# EAGLE library part TM4C1294KCPDTI3 (library TM4C1294KCPDTI3)
IoT enabled High performance 32-bit ARM Cortex-M4F based MCU Source: Datasheet <http://www.ti.com/lit/gpn/TM4C1294KCPDT>
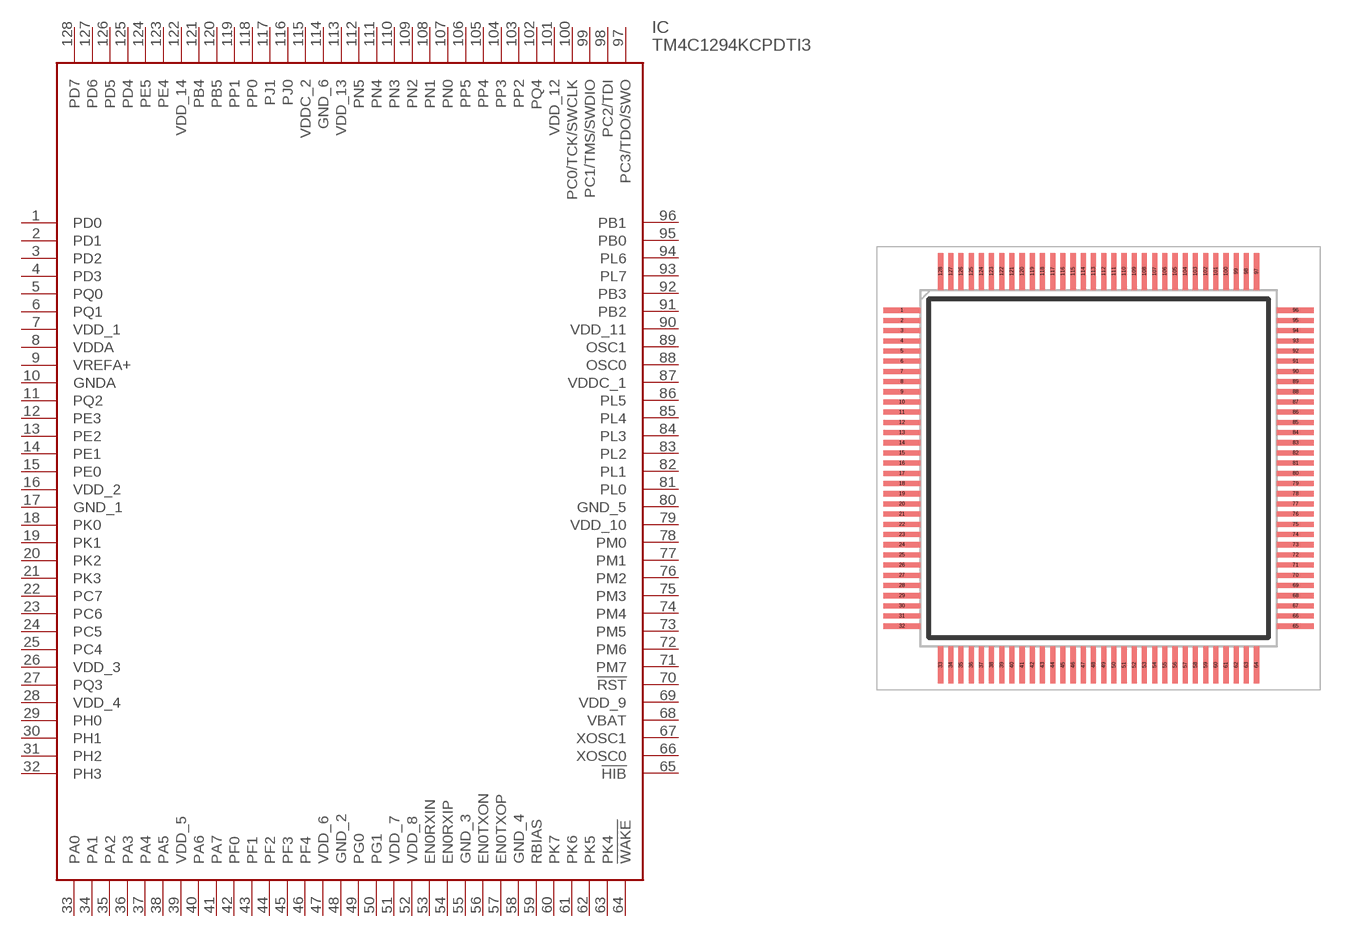
[diagram p0: symbol with the pads of QFP40P1600X1600X120-128N; footprint QFP40P1600X1600X120-128N]

Designator prefix IC

## TM4C1294KCPDTI3 (Arrow_Part_Number: TM4C1294KCPDTI3; Arrow_Price-Stock: https://www.arrow.com/en/products/tm4c1294kcpdti3/texas-instruments?utm_currency=USD&region=nac; Description: IoT enabled High performance 32-bit ARM Cortex-M4F based MCU; Height: 1.2mm; Manufacturer_Name: Texas Instruments; Manufacturer_Part_Number: TM4C1294KCPDTI3; Mouser_Part_Number: 595-TM4C1294KCPDTI3; Mouser_Price-Stock: https://www.mouser.co.uk/ProductDetail/Texas-Instruments/TM4C1294KCPDTI3?qs=NRIcxvoDUtdSWKDr717T9Q%3D%3D)  [QFP40P1600X1600X120-128N]
1  PD0
2  PD1
3  PD2
4  PD3
5  PQ0
6  PQ1
7  VDD_1
8  VDDA
9  VREFA+
10  GNDA
11  PQ2
12  PE3
13  PE2
14  PE1
15  PE0
16  VDD_2
17  GND_1
18  PK0
19  PK1
20  PK2
21  PK3
22  PC7
23  PC6
24  PC5
25  PC4
26  VDD_3
27  PQ3
28  VDD_4
29  PH0
30  PH1
31  PH2
32  PH3
33  PA0
34  PA1
35  PA2
36  PA3
37  PA4
38  PA5
39  VDD_5
40  PA6
41  PA7
42  PF0
43  PF1
44  PF2
45  PF3
46  PF4
47  VDD_6
48  GND_2
49  PG0
50  PG1
51  VDD_7
52  VDD_8
53  EN0RXIN
54  EN0RXIP
55  GND_3
56  EN0TXON
57  EN0TXOP
58  GND_4
59  RBIAS
60  PK7
61  PK6
62  PK5
63  PK4
64  !WAKE
65  !HIB
66  XOSC0
67  XOSC1
68  VBAT
69  VDD_9
70  !RST
71  PM7
72  PM6
73  PM5
74  PM4
75  PM3
76  PM2
77  PM1
78  PM0
79  VDD_10
80  GND_5
81  PL0
82  PL1
83  PL2
84  PL3
85  PL4
86  PL5
87  VDDC_1
88  OSC0
89  OSC1
90  VDD_11
91  PB2
92  PB3
93  PL7
94  PL6
95  PB0
96  PB1
97  PC3/TDO/SWO
98  PC2/TDI
99  PC1/TMS/SWDIO
100  PC0/TCK/SWCLK
101  VDD_12
102  PQ4
103  PP2
104  PP3
105  PP4
106  PP5
107  PN0
108  PN1
109  PN2
110  PN3
111  PN4
112  PN5
113  VDD_13
114  GND_6
115  VDDC_2
116  PJ0
117  PJ1
118  PP0
119  PP1
120  PB5
121  PB4
122  VDD_14
123  PE4
124  PE5
125  PD4
126  PD5
127  PD6
128  PD7

## Footprint QFP40P1600X1600X120-128N (pad centres in mm)
PDT (S-PQFP-G128)
smd 1.45 x 0.2: 1 -7.725,6.2; 2 -7.725,5.8; 3 -7.725,5.4; 4 -7.725,5; 5 -7.725,4.6; 6 -7.725,4.2; 7 -7.725,3.8; 8 -7.725,3.4; 9 -7.725,3; 10 -7.725,2.6; 11 -7.725,2.2; 12 -7.725,1.8; 13 -7.725,1.4; 14 -7.725,1; 15 -7.725,0.6; 16 -7.725,0.2; 17 -7.725,-0.2; 18 -7.725,-0.6; 19 -7.725,-1; 20 -7.725,-1.4; 21 -7.725,-1.8; 22 -7.725,-2.2; 23 -7.725,-2.6; 24 -7.725,-3; 25 -7.725,-3.4; 26 -7.725,-3.8; 27 -7.725,-4.2; 28 -7.725,-4.6; 29 -7.725,-5; 30 -7.725,-5.4; 31 -7.725,-5.8; 32 -7.725,-6.2; 65 7.725,-6.2; 66 7.725,-5.8; 67 7.725,-5.4; 68 7.725,-5; 69 7.725,-4.6; 70 7.725,-4.2; 71 7.725,-3.8; 72 7.725,-3.4; 73 7.725,-3; 74 7.725,-2.6; 75 7.725,-2.2; 76 7.725,-1.8; 77 7.725,-1.4; 78 7.725,-1; 79 7.725,-0.6; 80 7.725,-0.2; 81 7.725,0.2; 82 7.725,0.6; 83 7.725,1; 84 7.725,1.4; 85 7.725,1.8; 86 7.725,2.2; 87 7.725,2.6; 88 7.725,3; 89 7.725,3.4; 90 7.725,3.8; 91 7.725,4.2; 92 7.725,4.6; 93 7.725,5; 94 7.725,5.4; 95 7.725,5.8; 96 7.725,6.2
smd 0.2 x 1.45: 33 -6.2,-7.725; 34 -5.8,-7.725; 35 -5.4,-7.725; 36 -5,-7.725; 37 -4.6,-7.725; 38 -4.2,-7.725; 39 -3.8,-7.725; 40 -3.4,-7.725; 41 -3,-7.725; 42 -2.6,-7.725; 43 -2.2,-7.725; 44 -1.8,-7.725; 45 -1.4,-7.725; 46 -1,-7.725; 47 -0.6,-7.725; 48 -0.2,-7.725; 49 0.2,-7.725; 50 0.6,-7.725; 51 1,-7.725; 52 1.4,-7.725; 53 1.8,-7.725; 54 2.2,-7.725; 55 2.6,-7.725; 56 3,-7.725; 57 3.4,-7.725; 58 3.8,-7.725; 59 4.2,-7.725; 60 4.6,-7.725; 61 5,-7.725; 62 5.4,-7.725; 63 5.8,-7.725; 64 6.2,-7.725; 97 6.2,7.725; 98 5.8,7.725; 99 5.4,7.725; 100 5,7.725; 101 4.6,7.725; 102 4.2,7.725; 103 3.8,7.725; 104 3.4,7.725; 105 3,7.725; 106 2.6,7.725; 107 2.2,7.725; 108 1.8,7.725; 109 1.4,7.725; 110 1,7.725; 111 0.6,7.725; 112 0.2,7.725; 113 -0.2,7.725; 114 -0.6,7.725; 115 -1,7.725; 116 -1.4,7.725; 117 -1.8,7.725; 118 -2.2,7.725; 119 -2.6,7.725; 120 -3,7.725; 121 -3.4,7.725; 122 -3.8,7.725; 123 -4.2,7.725; 124 -4.6,7.725; 125 -5,7.725; 126 -5.4,7.725; 127 -5.8,7.725; 128 -6.2,7.725